# EAGLE library part HRD-6 (library LITTLEBITS140915)
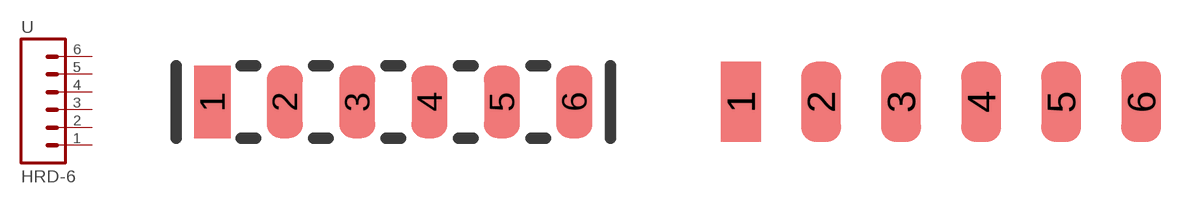
[diagram p35: symbol with the pads of SIP6-SM-0.1IN; footprints SIP6-SM-0.1IN, SIP6-SM-0.1IN-NOS.S.]

Designator prefix -

## HRD-60.1INCH  [SIP6-SM-0.1IN]
1  1  pas
2  2  pas
3  3  pas
4  4  pas
5  5  pas
6  6  pas

## HRD-60.1INCH_NO_SILKSCREEN  [SIP6-SM-0.1IN-NOS.S.]
Pads as for SIP6-SM-0.1IN

## HRD-60.1INCH_NO_SILKSCREEN_SMALL  [SIP6-SM-0.1IN-NOS.S-MIN]
Pads as for SIP6-SM-0.1IN

## Footprint SIP6-SM-0.1IN (pad centres in mm)
smd 1.27 x 2.54: 1 -6.35,0; 2 -3.81,0; 3 -1.27,0; 4 1.27,0; 5 3.81,0; 6 6.35,0

## Footprint SIP6-SM-0.1IN-NOS.S. (pad centres in mm)
smd 1.27 x 2.54: 1 -6.35,0; 2 -3.81,0; 3 -1.27,0; 4 1.27,0; 5 3.81,0; 6 6.35,0

## Footprint SIP6-SM-0.1IN-NOS.S-MIN (pad centres in mm)
smd 1.27 x 1.27: 1 -6.35,0; 2 -3.81,0; 3 -1.27,0; 4 1.27,0; 5 3.81,0; 6 6.35,0